# Altium schematic symbol library Antena.SchLib: 1 symbol
Pins are listed as number, name and electrical type; pins without a type are passive.

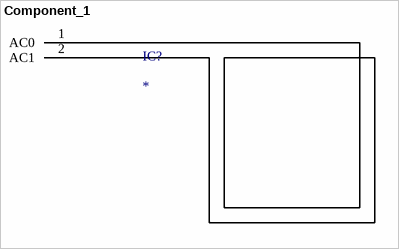
[diagram p0: symbol Component_1]

## Component_1
designator IC?
Antena
footprint Antena
pins: 1 AC0, 2 AC1